# Altium schematic symbol library 74AC04MTC.SchLib: 1 symbol
Pins are listed as number, name and electrical type; pins without a type are passive.

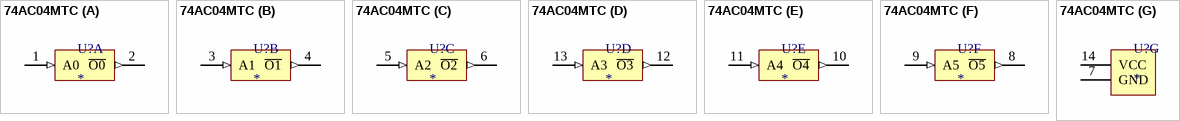
[diagram p0: symbol 74AC04MTC]

## 74AC04MTC
designator U?
FAIRCHILD SEMICONDUCTOR - 74AC04MTC - IC, SM, LOGIC, 74AC, HEX INVERTER; farnell: 1607734
footprint 74AC04MTC (FAIRCHILD SEMICONDUCTOR - 74AC04MTC - IC, SM, LOGIC, 74AC, HEX INVERTER)
part A pins: 1 A0 (in), 2 ~{O0} (out)
part B pins: 3 A1 (in), 4 ~{O1} (out)
part C pins: 5 A2 (in), 6 ~{O2} (out)
part D pins: 12 ~{O3} (out), 13 A3 (in)
part E pins: 10 ~{O4} (out), 11 A4 (in)
part F pins: 8 ~{O5} (out), 9 A5 (in)
part G pins: 7 GND (power), 14 VCC (power)